# Altium footprint library Diods.PcbLib: 3 footprints
Each footprint in its own frame and in the unit in brackets; x right, y up, seen from the top. Pads: shape width x height; smd on the part's side, far side on the other; paste and mask are expansions set on the pad; w line width, h text height; cw(c..) or ccw(c..) is an arc to the next point about the centre after c.
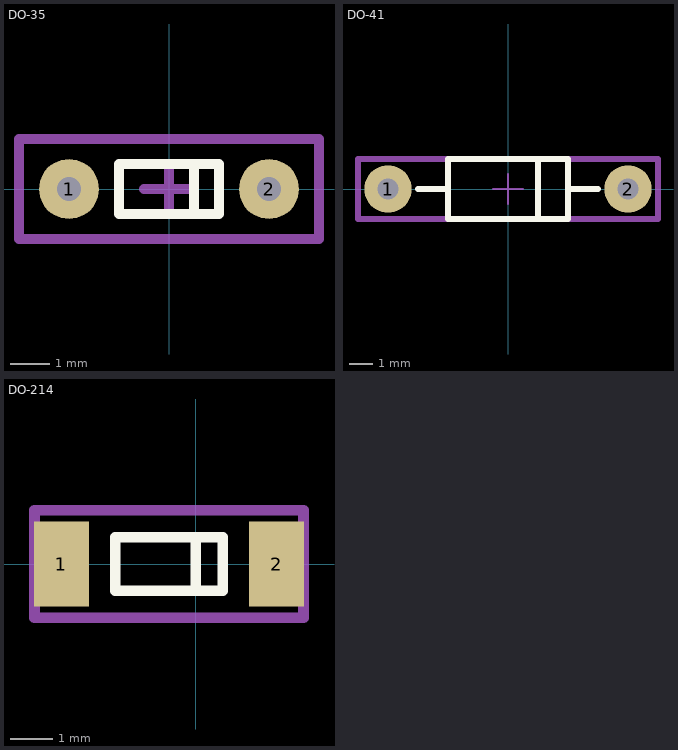
[diagram p0: the footprints below, top view; thin cyan lines are the x and y axes]

## DO-35 [mil]
pads (2):
  round 60 hole 23.62: 1(-100,0) 2(100,0)
Top Overlay:
  lines w9.84: 25,-25 25,25 ; -12.5,-25 50,-25 ; -12.5,-25 -50,-25 -50,25 50,25 50,-25 ; -12.5,-25 50,-25
Border:
  lines w9.84: -25,0 25,0 ; 0,-25 0,25 ; -150,-50 150,-50 150,50 -150,50 -150,-50
3D body "1N4148x5mm.STEP": height 68.9, standoff -92.52, extent -108.26,-29.52 108.28,29.53

## DO-41 [mm]
pads (2):
  round 2 hole 0.9: 1(-5.08,0) 2(5.08,0)
Top Overlay:
  lines w0.254: -3.81,0 -2.54,0 ; 1.27,-1.27 1.27,1.27 ; 2.54,0 3.81,0 ; -2.54,-1.27 -2.54,1.27 2.54,1.27 2.54,-1.27 -2.54,-1.27
Top Assy:
  lines w0.254: -6.35,-1.27 6.35,-1.27 6.35,1.27 -6.35,1.27 -6.35,-1.27
Border:
  lines w0.1: -0.635,0 0.635,0 ; 0,-0.635 0,0.635 ; -6.35,-1.27 6.35,-1.27 6.35,1.27 -6.35,1.27 -6.35,-1.27
3D body "DIODE_10_16mm_Dip.STEP": height 2.85, standoff -2.24, extent -5.461,-1.27 5.461,1.295

## DO-214 [mm]
pads (2):
  rect 1.3x2 smd: 1(-3.175,0) 2(1.905,0)
Top Overlay:
  lines w0.25: 0,-0.635 0,0.635 ; -1.905,-0.635 -1.905,0.635 0.635,0.635 0.635,-0.635 -0.953,-0.635 -1.905,-0.635
Border:
  lines w0.25: -3.81,-1.27 2.54,-1.27 2.54,1.27 -3.81,1.27 -3.81,-1.27
3D body "User Library-DO-214AC SMA.X_T": height 2.4, standoff 0, extent -3.235,-1.3 1.965,1.3